# Altium footprint library 253-4_VTM.PcbLib: 1 footprints
Each footprint in its own frame and in the unit in brackets; x right, y up, seen from the top. Pads: shape width x height; smd on the part's side, far side on the other; paste and mask are expansions set on the pad; w line width, h text height; cw(c..) or ccw(c..) is an arc to the next point about the centre after c.
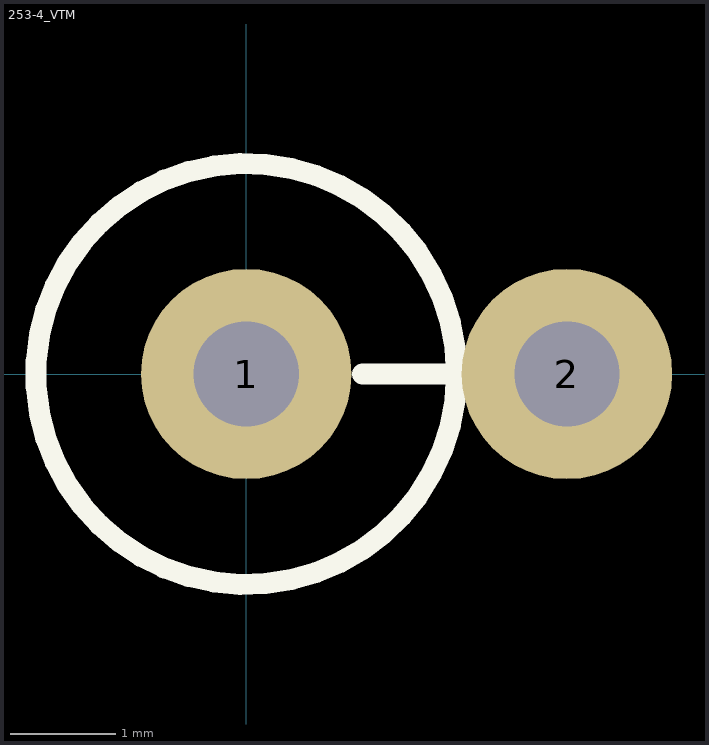
[diagram p0: the footprint, top view; thin cyan lines are the x and y axes]

## 253-4_VTM [mm]
height 14
pads (2):
  round 2 hole 1: 1(0,0) 2(3.048,0)
Top Overlay:
  circle w0.2: c0,0 r2
  lines w0.2: 1.104,0 1.954,0
3D body: height 14.85, standoff 14.15, extent 0,-0.349 3,0.349
3D body: height 14.85, standoff 14.15, extent 2.704,-0.35 3.4,0.347
3D body: height 14.85, standoff 14.15, extent -0.346,-0.35 0.35,0.347
3D body: height 1.5, standoff -2.5, extent -0.347,-0.35 0.35,0.349
3D body: height 14, standoff 0.5, extent -2,-2 1.984,1.992
3D body: height 14.5, standoff -2.5, extent 2.703,-0.35 3.4,0.349
3D body: height 14.5, standoff 13.5, extent -0.347,-0.35 0.35,0.349